# Altium footprint library IC.PcbLib: 67 footprints (part 2 of 5)
Each footprint in its own frame and in the unit in brackets; x right, y up, seen from the top. Pads: shape width x height; smd on the part's side, far side on the other; paste and mask are expansions set on the pad; w line width, h text height; cw(c..) or ccw(c..) is an arc to the next point about the centre after c.
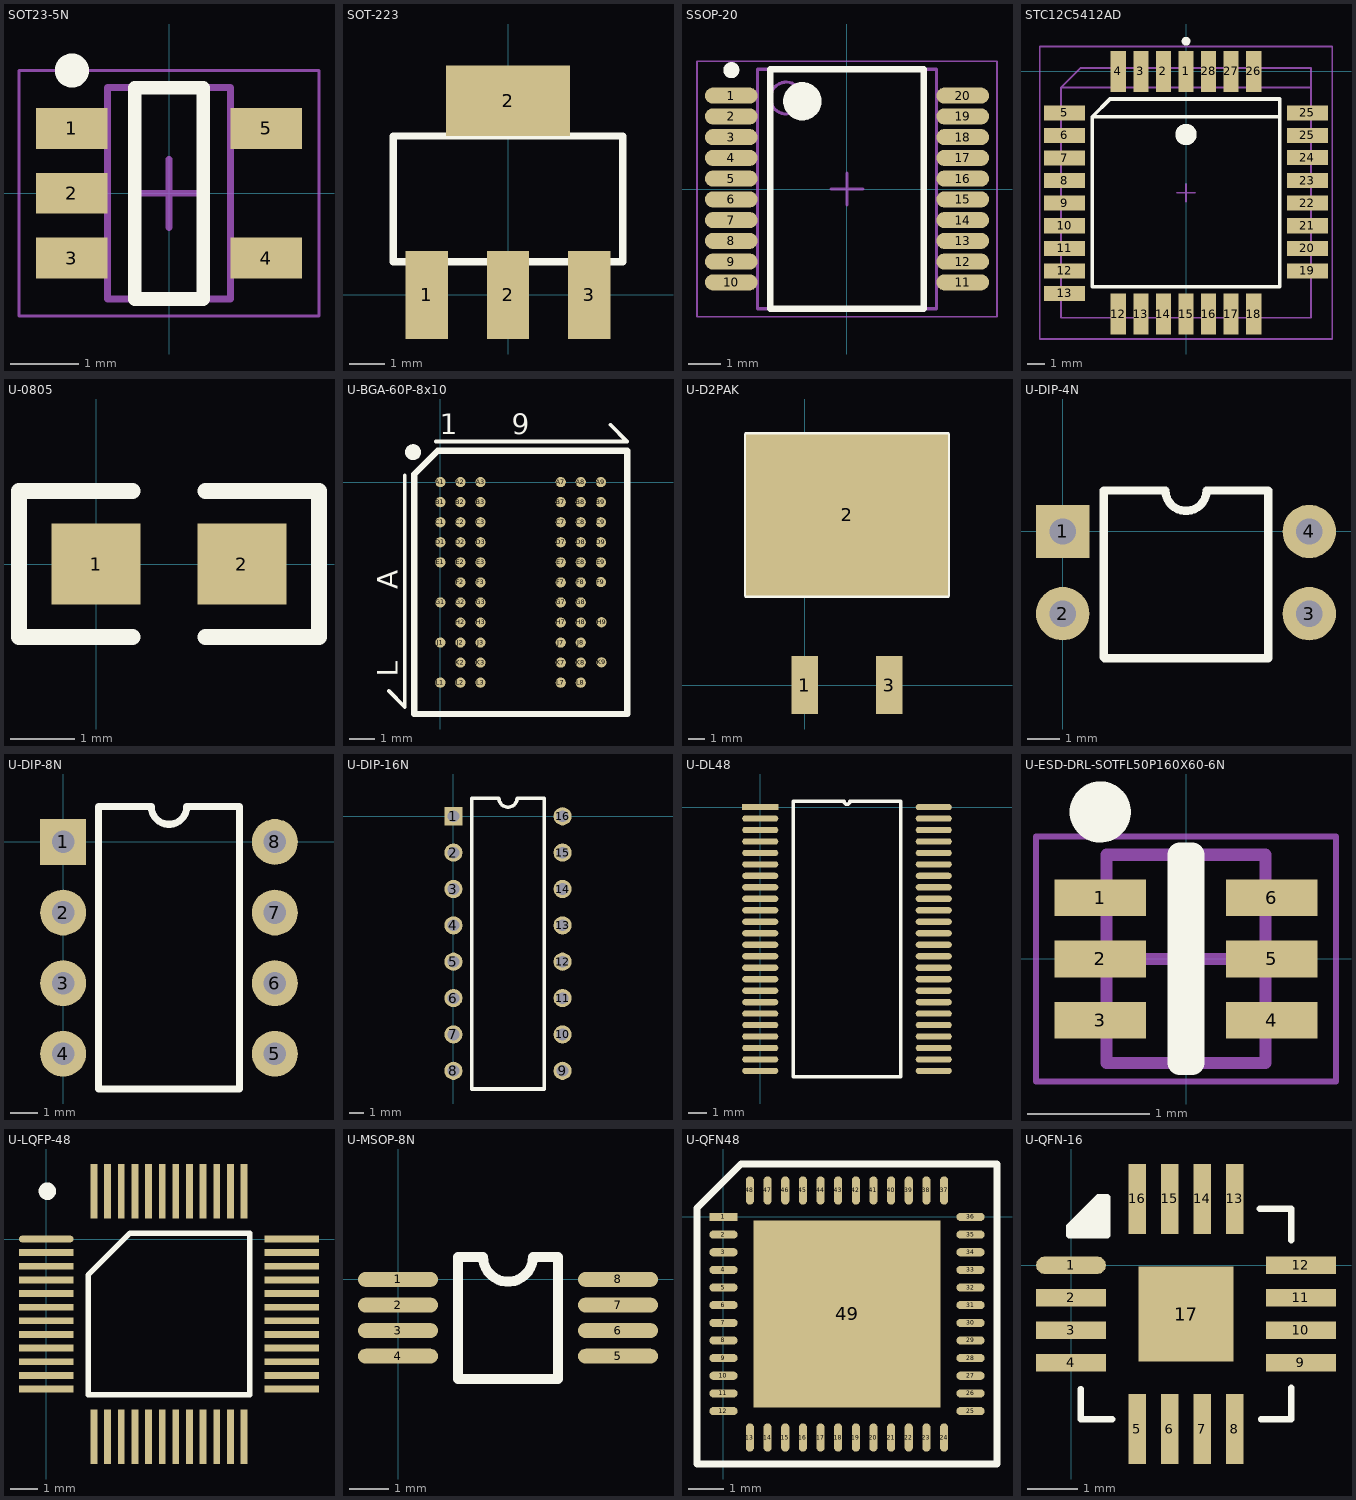
[diagram p1: the footprints below, top view; thin cyan lines are the x and y axes]

## SOT23-5N [mm] "SOT23, 5-Leads, Body 2.90x2.70mm, Pitch 0.95mm, IPC Medium Density"
height 1.45
pads (5):
  rect 1.05x0.6 smd: 1(-1.425,0.95) 2(-1.425,0) 3(-1.425,-0.95) 4(1.425,-0.95) 5(1.425,0.95)
Top Overlay:
  circle w0.25: c-1.425,1.8 r0.125
  lines w0.2: -0.5,-1.55 -0.5,1.55 0.5,1.55 0.5,-1.55 -0.5,-1.55
Mechanical 13:
  lines w0.1: -0.9,-1.55 0.9,-1.55 0.9,1.55 -0.9,1.55 -0.9,-1.55
Mechanical 15:
  lines w0.05: -2.2,-1.8 2.2,-1.8 2.2,1.8 -2.2,1.8 -2.2,-1.8
  lines w0.1: -0.5,0 0.5,0 ; 0,-0.5 0,0.5
3D body: height 1.45, standoff 0.15, extent -0.9,-1.55 0.9,1.55

## SOT-223 [mm]
pads (4):
  rect 1.2x2.5 smd: 1(-2.3,0) 2(0,0) 3(2.3,0)
  rect 3.5x2 smd: 2(0,5.5)
Top Overlay:
  lines w0.203: -3.25,0.94 -3.25,4.5 3.25,4.5 3.25,0.94 -3.25,0.94

## SSOP-20 [mm] "CH559T"
pads (20):
  oval 1.65x0.5 smd: 1(-3.625,2.925) 2(-3.625,2.275) 3(-3.625,1.625) 4(-3.625,0.975) 5(-3.625,0.325) 6(-3.625,-0.325) 7(-3.625,-0.975) 8(-3.625,-1.625) 9(-3.625,-2.275) 10(-3.625,-2.925) 11(3.625,-2.925) 12(3.625,-2.275) 13(3.625,-1.625) 14(3.625,-0.975) 15(3.625,-0.325) 16(3.625,0.325) 17(3.625,0.975) 18(3.625,1.625) 19(3.625,2.275) 20(3.625,2.925)
Top Overlay:
  circle w0.25: c-3.625,3.725 r0.125
  circle w0.6: c-1.4,2.75 r0.3
  lines w0.2: -2.4,-3.75 -2.4,3.75 2.4,3.75 2.4,-3.75 -2.4,-3.75
Mechanical 13:
  circle w0.1: c-1.9,2.85 r0.5
  lines w0.1: -2.8,-3.75 -2.8,3.75 2.8,3.75 2.8,-3.75 -2.8,-3.75
Mechanical 15:
  lines w0.05: -4.7,-4 -4.7,4 4.7,4 4.7,-4 -4.7,-4
  lines w0.1: -0.5,0 0.5,0 ; 0,-0.5 0,0.5
3D body: height 2, standoff 0.05, extent -2.8,-3.75 2.8,3.75

## STC12C5412AD [mm] "PLCC, 28-Leads, Body 15.1x15.1mm (max), Pitch 1.270mm, IPC Medium Density"
height 2.84
pads (31):
  rect 0.85x2.3 smd: 1(0,0) 2(-1.27,0) 3(-2.54,0) 4(-3.81,0) 12(-3.81,-13.65) 13(-2.54,-13.65) 14(-1.27,-13.65) 15(0,-13.65) 16(1.27,-13.65) 17(2.54,-13.65) 18(3.81,-13.65) 26(3.81,0) 27(2.54,0) 28(1.27,0)
  rect 2.3x0.85 smd: 5(-6.825,-2.329) 6(-6.825,-3.599) 7(-6.825,-4.869) 8(-6.825,-6.139) 9(-6.825,-7.409) 10(-6.825,-8.679) 11(-6.825,-9.949) 12(-6.825,-11.219) 13(-6.825,-12.489) 19(6.825,-11.219) 20(6.825,-9.949) 21(6.825,-8.679) 22(6.825,-7.409) 23(6.825,-6.139) 24(6.825,-4.844) 25(6.825,-3.599) 25(6.825,-2.329)
Top Overlay:
  circle w0.25: c0,1.7 r0.125
  circle w0.6: c0,-3.55 r0.3
  lines w0.2: 5.275,-2.55 -5.275,-2.55 ; -5.275,-2.55 -4.275,-1.55 5.275,-1.55 5.275,-12.1 -5.275,-12.1 -5.275,-2.55
Mechanical 13:
  lines w0.1: 7.025,-0.9 -7.025,-0.9 ; -7.025,-0.9 -7.025,-13.85 7.025,-13.85 7.025,0.2 -5.925,0.2 -7.025,-0.9
Mechanical 15:
  lines w0.1: -0.5,-6.825 0.5,-6.825 ; 0,-7.325 0,-6.325 ; -8.225,-15.05 -8.225,1.4 8.225,1.4 8.225,-15.05 -8.225,-15.05
3D body: height 2.84, standoff 0.38, extent -7.025,-13.774 7.025,0.276

## U-0805 [mil]
height 59.06
pads (2):
  rect 55x50 smd: 1(0,0) 2(90,0)
Top Overlay:
  lines w10: 22.5,-45 -47.5,-45 -47.5,45 22.5,45 ; 67.5,-45 137.5,-45 137.5,45 67.5,45
3D body: height 21.65, standoff 0, extent 6,-19 84,19
3D body: height 21.65, standoff 0, extent -11,-19 6,19
3D body: height 21.65, standoff 0, extent 84,-19 101,19

## U-BGA-60P-8x10 [mil]
pads (60):
  round 16 smd: A1(0,0) A2(31.5,0) A3(62.99,0) A7(188.98,0) A8(220.47,0) A9(251.97,0) B1(0,-31.5) B2(31.5,-31.5) B3(62.99,-31.5) B7(188.98,-31.5) B8(220.47,-31.5) B9(251.97,-31.5) C1(0,-62.99) C2(31.5,-62.99) C3(62.99,-62.99) C7(188.98,-62.99) C8(220.47,-62.99) C9(251.97,-62.99) D1(0,-94.49) D2(31.5,-94.49) D3(62.99,-94.49) D7(188.98,-94.49) D8(220.47,-94.49) D9(251.97,-94.49) E1(0,-125.98) E2(31.5,-125.98) E3(62.99,-125.98) E7(188.98,-125.98) E8(220.47,-125.98) E9(251.97,-125.98) F2(31.5,-157.48) F3(62.99,-157.48) F7(188.98,-157.48) F8(220.47,-157.48) F9(252,-157) G1(0,-188.98) G2(31.5,-188.98) G3(62.99,-188.98) G7(188.98,-188.98) G8(220.47,-188.98) H2(31.5,-220.47) H3(62.99,-220.47) H7(188.98,-220.47) H8(220.47,-220.47) H9(253,-220) J1(0,-251.97) J2(31.5,-251.97) J3(62.99,-251.97) J7(188.98,-251.97) J8(220.47,-251.97) K2(31.5,-283.46) K3(62.99,-283.46) K7(188.98,-283.46) K8(220.47,-283.46) K9(253,-283) L1(0,-314.96) L2(31.5,-314.96) L3(62.99,-314.96) L7(188.98,-314.96) L8(220.47,-314.96)
Top Overlay:
  circle w15: c-43,47 r5
  lines w6: -81,-328 -56,-353 -56.09,10.68 ; -7,63.97 293,64 267,90
  lines w10: -41.34,-364.17 293.31,-364.17 293.31,49.21 -4.32,49.21 -41.34,12.2 -41.34,-364.17
  text "1      9" at -1,74.97 h32
  text "L        A" at -67,-306 h32
3D body: height 47.24, standoff 0, extent -25,-350 278,35

## U-D2PAK [mm]
pads (3):
  rect 1.6x3.5 smd: 1(0,0) 3(5.08,0)
  rect 12.2x9.75 smd: 2(2.54,10.275)
Top Overlay:
  lines w0.254: -3.56,5.4 -3.56,15.15 8.64,15.15 8.64,5.4 -3.56,5.4
3D body: height 0.25, standoff 0, extent 4.572,-0.762 5.575,5.588
3D body: height 1.5, standoff 0.1, extent -3.56,5.4 8.64,15.15
3D body: height 0.25, standoff 0, extent -0.508,-0.762 0.495,5.588

## U-DIP-4N [mil]
pads (4):
  rect 65x65 hole 32: 1(0,0)
  round 65 hole 32: 2(0,-100) 3(300,-100) 4(300,0)
Top Overlay:
  lines w10: 250,49 250,-154.15 51,-154.15 50,-153.15 50,50 125,50 ccw(c150,50) 175,50 250,50
3D body: height 49.37, standoff 0, extent 294.63,-113 301.38,-87
3D body: height 49.37, standoff 0, extent 294.63,-13 301.38,13
3D body: height 49.37, standoff 0, extent -1.37,-13 5.38,13
3D body: height 49.37, standoff 0, extent -1.37,-112 5.38,-86
3D body: height 49.37, standoff 39.37, extent 245.5,-13 301.37,13
3D body: height 49.37, standoff 39.37, extent 245.5,-113 301.37,-87
3D body: height 49.37, standoff 39.37, extent -1.37,-112 54.5,-86
3D body: height 49.37, standoff 39.37, extent -1.37,-13 54.5,13
3D body: height 118.11, standoff 3.94, extent 50,-154.15 250,50

## U-DIP-8N [mil]
pads (8):
  rect 65x65 hole 32: 1(0,0)
  round 65 hole 32: 2(0,-100) 3(0,-200) 4(0,-300) 5(300,-300) 6(300,-200) 7(300,-100) 8(300,0)
Top Overlay:
  lines w10: 50,-350 50,50 125,50 ccw(c150,50) 175,50 250,50 250,-350 50,-350
3D body: height 118.11, standoff 3.94, extent 50,-350 250,50
3D body: height 49.37, standoff 39.37, extent -1.37,-13 54.5,13
3D body: height 49.37, standoff 39.37, extent -1.37,-112 54.5,-86
3D body: height 49.37, standoff 0, extent -1.37,-212 5.38,-186
3D body: height 49.37, standoff 39.37, extent -1.37,-212 54.5,-186
3D body: height 49.37, standoff 39.37, extent -1.37,-312 54.5,-286
3D body: height 49.37, standoff 39.37, extent 244.5,-313 300.37,-287
3D body: height 49.37, standoff 39.37, extent 245.5,-213 301.37,-187
3D body: height 49.37, standoff 39.37, extent 245.5,-113 301.37,-87
3D body: height 49.37, standoff 39.37, extent 245.5,-13 301.37,13
3D body: height 49.37, standoff 0, extent -1.37,-312 5.38,-286
3D body: height 49.37, standoff 0, extent -1.37,-112 5.38,-86
3D body: height 49.37, standoff 0, extent -1.37,-13 5.38,13
3D body: height 49.37, standoff 0, extent 294.63,-13 301.38,13
3D body: height 49.37, standoff 0, extent 294.63,-113 301.38,-87
3D body: height 49.37, standoff 0, extent 294.63,-213 301.38,-187
3D body: height 49.37, standoff 0, extent 293.63,-313 300.38,-287

## U-DIP-16N [mil]
pads (16):
  rect 50x50 hole 32: 1(0,0)
  round 50 hole 32: 2(0,-100) 3(0,-200) 4(0,-300) 5(0,-400) 6(0,-500) 7(0,-600) 8(0,-700) 9(300,-700) 10(300,-600) 11(300,-500) 12(300,-400) 13(300,-300) 14(300,-200) 15(300,-100) 16(300,0)
Top Overlay:
  lines w10: 50,-750 250,-750 250,50 175,50 cw(c150,50) 125,50 50,50 50,-750
3D body: height 118.11, standoff 3.94, extent 50,-750 250,50
3D body: height 49.37, standoff 39.37, extent -1.37,-13 54.5,13
3D body: height 49.37, standoff 0, extent -1.37,-13 5.38,13
3D body: height 49.37, standoff 39.37, extent -0.37,-113 55.5,-87
3D body: height 49.37, standoff 0, extent -0.37,-113 6.38,-87
3D body: height 49.37, standoff 39.37, extent -0.37,-213 55.5,-187
3D body: height 49.37, standoff 0, extent -0.37,-213 6.38,-187
3D body: height 49.37, standoff 39.37, extent -0.37,-313 55.5,-287
3D body: height 49.37, standoff 0, extent -0.37,-313 6.38,-287
3D body: height 49.37, standoff 39.37, extent -0.37,-412 55.5,-386
3D body: height 49.37, standoff 0, extent -0.37,-412 6.38,-386
3D body: height 49.37, standoff 39.37, extent -0.37,-514 55.5,-488
3D body: height 49.37, standoff 0, extent -0.37,-514 6.38,-488
3D body: height 49.37, standoff 39.37, extent -0.37,-614 55.5,-588
3D body: height 49.37, standoff 0, extent -0.37,-614 6.38,-588
3D body: height 49.37, standoff 39.37, extent -0.37,-714 55.5,-688
3D body: height 49.37, standoff 0, extent -0.37,-714 6.38,-688
3D body: height 49.37, standoff 39.37, extent 244.5,-714 300.37,-688
3D body: height 49.37, standoff 0, extent 293.62,-714 300.37,-688
3D body: height 49.37, standoff 39.37, extent 244.5,-614 300.37,-588
3D body: height 49.37, standoff 0, extent 293.62,-614 300.37,-588
3D body: height 49.37, standoff 39.37, extent 245.5,-514 301.37,-488
3D body: height 49.37, standoff 0, extent 294.62,-514 301.37,-488
3D body: height 49.37, standoff 39.37, extent 245.5,-414 301.37,-388
3D body: height 49.37, standoff 0, extent 294.62,-414 301.37,-388
3D body: height 49.37, standoff 39.37, extent 243.5,-314 299.37,-288
3D body: height 49.37, standoff 0, extent 292.62,-314 299.37,-288
3D body: height 49.37, standoff 39.37, extent 245.5,-213 301.37,-187
3D body: height 49.37, standoff 0, extent 294.62,-213 301.37,-187
3D body: height 49.37, standoff 39.37, extent 244.5,-114 300.37,-88
3D body: height 49.37, standoff 0, extent 293.62,-114 300.37,-88
3D body: height 49.37, standoff 39.37, extent 243.5,-14 299.37,12
3D body: height 49.37, standoff 0, extent 292.62,-14 299.37,12

## U-DL48 [mm]
pads (48):
  rect 2x0.35 smd: 1(0,0)
  oval 2x0.35 smd: 2(0,-0.635) 3(0,-1.27) 4(0,-1.905) 5(0,-2.54) 6(0,-3.175) 7(0,-3.81) 8(0,-4.445) 9(0,-5.08) 10(0,-5.715) 11(0,-6.35) 12(0,-6.985) 13(0,-7.62) 14(0,-8.255) 15(0,-8.89) 16(0,-9.525) 17(0,-10.16) 18(0,-10.795) 19(0,-11.43) 20(0,-12.065) 21(0,-12.7) 22(0,-13.335) 23(0,-13.97) 24(0,-14.605) 25(9.6,-14.605) 26(9.6,-13.97) 27(9.6,-13.335) 28(9.6,-12.7) 29(9.6,-12.065) 30(9.6,-11.43) 31(9.6,-10.795) 32(9.6,-10.16) 33(9.6,-9.525) 34(9.6,-8.89) 35(9.6,-8.255) 36(9.6,-7.62) 37(9.6,-6.985) 38(9.6,-6.35) 39(9.6,-5.715) 40(9.6,-5.08) 41(9.6,-4.445) 42(9.6,-3.81) 43(9.6,-3.175) 44(9.6,-2.54) 45(9.6,-1.905) 46(9.6,-1.27) 47(9.6,-0.635) 48(9.6,0)
Top Overlay:
  lines w0.2: 1.835,-14.922 7.765,-14.922 7.765,0.318 4.959,0.318 cw(c4.8,0.318) 4.641,0.318 1.835,0.318 1.835,-14.922
3D body: height 3, standoff 0.1, extent 1.829,-14.91 7.772,0.33

## U-ESD-DRL-SOTFL50P160X60-6N [mm] "SOTFL, 6-Leads, Body 1.60x1.60mm, Pitch 0.50mm, IPC Medium Density"
height 0.6
pads (6):
  rect 0.75x0.3 smd: 1(-0.7,0.5) 2(-0.7,0) 3(-0.7,-0.5) 4(0.7,-0.5) 5(0.7,0) 6(0.7,0.5)
Top Overlay:
  circle w0.25: c-0.7,1.2 r0.125
  lines w0.2: -0.05,-0.85 -0.05,0.85 0.05,0.85 0.05,-0.85 -0.05,-0.85
Mechanical 13:
  lines w0.1: -0.65,-0.85 0.65,-0.85 0.65,0.85 -0.65,0.85 -0.65,-0.85
Mechanical 15:
  lines w0.05: -1.225,-1 1.225,-1 1.225,1 -1.225,1 -1.225,-1
  lines w0.1: -0.5,0 0.5,0 ; 0,-0.5 0,0.5
3D body: height 0.6, standoff 0, extent -0.65,-0.85 0.65,0.85

## U-LQFP-48 [mm]
pads (48):
  oval 2x0.25 smd: 1(0,0)
  rect 2x0.25 smd: 2(0,-0.5) 3(0,-1) 4(0,-1.5) 5(0,-2) 6(0,-2.5) 7(0,-3) 8(0,-3.5) 9(0,-4) 10(0,-4.5) 11(0,-5) 12(0,-5.5) 25(9,-5.5) 26(9,-5) 27(9,-4.5) 28(9,-4) 29(9,-3.5) 30(9,-3) 31(9,-2.5) 32(9,-2) 33(9,-1.5) 34(9,-1) 35(9,-0.5) 36(9,0)
  rect 0.25x2 smd: 13(1.75,-7.25) 14(2.25,-7.25) 15(2.75,-7.25) 16(3.25,-7.25) 17(3.75,-7.25) 18(4.25,-7.25) 19(4.75,-7.25) 20(5.25,-7.25) 21(5.75,-7.25) 22(6.25,-7.25) 23(6.75,-7.25) 24(7.25,-7.25) 37(7.25,1.75) 38(6.75,1.75) 39(6.25,1.75) 40(5.75,1.75) 41(5.25,1.75) 42(4.75,1.75) 43(4.25,1.75) 44(3.75,1.75) 45(3.25,1.75) 46(2.75,1.75) 47(2.25,1.75) 48(1.75,1.75)
Top Overlay:
  circle w0.381: c0.039,1.753 r0.127
  lines w0.2: 1.535,-5.715 7.465,-5.715 7.465,0.215 3.07,0.215 1.535,-1.32 1.535,-5.715
3D body: height 1.5, standoff 0.1, extent 0.076,-7.239 8.915,1.626

## U-MSOP-8N [mil]
pads (8):
  oval 80x15 smd: 1(0,0) 2(0,-25.59) 3(0,-51.18) 4(0,-76.77) 5(220,-76.77) 6(220,-51.18) 7(220,-25.59) 8(220,0)
Top Overlay:
  lines w10: 60,-99.41 160,-99.41 160,22.64 135,22.64 cw(c110,22.64) 85,22.64 60,22.64 60,-99.41
3D body: height 10, standoff 0, extent 158,-84.45 228,-69.77
3D body: height 10, standoff 0, extent 158,-58.86 228,-44.18
3D body: height 10, standoff 0, extent 158,-33.27 228,-18.59
3D body: height 10, standoff 0, extent 158,-7.68 228,7
3D body: height 10, standoff 0, extent -8,-7 62,7.68
3D body: height 10, standoff 0, extent -8,-32.59 62,-17.91
3D body: height 10, standoff 0, extent -8,-83.77 62,-69.09
3D body: height 43.31, standoff 3.94, extent 60,-100 160,25
3D body: height 10, standoff 0, extent -8,-58.18 62,-43.5

## U-QFN48 [mm]
pads (49):
  rect 0.8x0.23 smd: 1(0,0)
  oval 0.8x0.23 smd: 2(0,-0.5) 3(0,-1) 4(0,-1.5) 5(0,-2) 6(0,-2.5) 7(0,-3) 8(0,-3.5) 9(0,-4) 10(0,-4.5) 11(0,-5) 12(0,-5.5) 25(7,-5.5) 26(7,-5) 27(7,-4.5) 28(7,-4) 29(7,-3.5) 30(7,-3) 31(7,-2.5) 32(7,-2) 33(7,-1.5) 34(7,-1) 35(7,-0.5) 36(7,0)
  oval 0.23x0.8 smd: 13(0.75,-6.25) 14(1.25,-6.25) 15(1.75,-6.25) 16(2.25,-6.25) 17(2.75,-6.25) 18(3.25,-6.25) 19(3.75,-6.25) 20(4.25,-6.25) 21(4.75,-6.25) 22(5.25,-6.25) 23(5.75,-6.25) 24(6.25,-6.25) 37(6.25,0.75) 38(5.75,0.75) 39(5.25,0.75) 40(4.75,0.75) 41(4.25,0.75) 42(3.75,0.75) 43(3.25,0.75) 44(2.75,0.75) 45(2.25,0.75) 46(1.75,0.75) 47(1.25,0.75) 48(0.75,0.75)
  rect 5.3x5.3 smd: 49(3.5,-2.75)
Top Overlay:
  lines w0.2: -0.75,-7 7.75,-7 7.75,1.5 0.5,1.5 -0.75,0.25 -0.75,-7
3D body: height 1.5, standoff 0.1, extent 0,-6.25 7,0.75

## U-QFN-16 [mm]
pads (17):
  oval 1.4x0.35 smd: 1(0,0)
  rect 1.4x0.35 smd paste+0: 2(0,-0.65) 3(0,-1.3) 4(0,-1.95)
  rect 0.35x1.4 smd: 5(1.325,-3.275) 6(1.975,-3.275) 7(2.625,-3.275) 8(3.275,-3.275) 13(3.275,1.325) 14(2.625,1.325) 15(1.975,1.325) 16(1.325,1.325)
  rect 1.4x0.35 smd: 9(4.6,-1.95) 10(4.6,-1.3) 11(4.6,-0.65) 12(4.6,0)
  rect 1.9x1.9 smd: 17(2.3,-0.975)
Top Overlay:
  lines w0.127: 0.09,0.625 0.09,0.905 ; 0.192,-2.474 0.192,-3.083 0.827,-3.083 ; 0.217,0.6 0.217,1.006 ; 0.344,0.625 0.344,1.133 ; 0.471,0.6 0.471,1.26 ; 0.598,0.6 0.598,1.336 ; 3.773,1.133 4.408,1.133 4.408,0.498 ; 3.799,-3.083 4.408,-3.083 4.408,-2.448 ; -0.037,0.6 0.725,0.6 0.725,1.362 0.547,1.362 -0.037,0.778 -0.037,0.6
3D body: height 1, standoff 0.1, extent 0.39,-2.88 4.205,0.93